# Altium footprint library SA15-11EWA.PcbLib: 1 footprints
Each footprint in its own frame and in the unit in brackets; x right, y up, seen from the top. Pads: shape width x height; smd on the part's side, far side on the other; paste and mask are expansions set on the pad; w line width, h text height; cw(c..) or ccw(c..) is an arc to the next point about the centre after c.
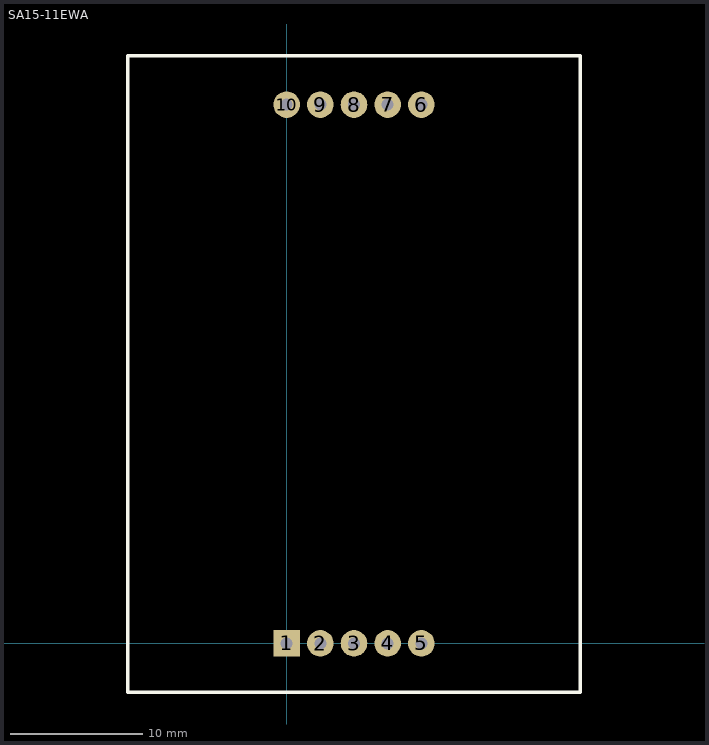
[diagram p0: the footprint, top view; thin cyan lines are the x and y axes]

## SA15-11EWA [mm]
pads (10):
  rect 2x2 hole 0.9: 1(0,0)
  round 2 hole 0.9: 2(2.54,0) 3(5.08,0) 4(7.62,0) 5(10.16,0) 6(10.16,40.64) 7(7.62,40.64) 8(5.08,40.64) 9(2.54,40.64) 10(0,40.64)
Top Overlay:
  lines w0.254: -11.995,-3.68 -11.995,44.32 22.155,44.32 22.155,-3.68 -11.995,-3.68
3D body "SA15-11.STEP": height 12.5, standoff -4, extent -11.5,-3.18 21.65,43.82